# EAGLE library part MCV_05/12-G-2,5 (library con-phoenix-250)
Mini-Combicon 2.50mm 12polig MC(V) 0,5/12-G-2,5
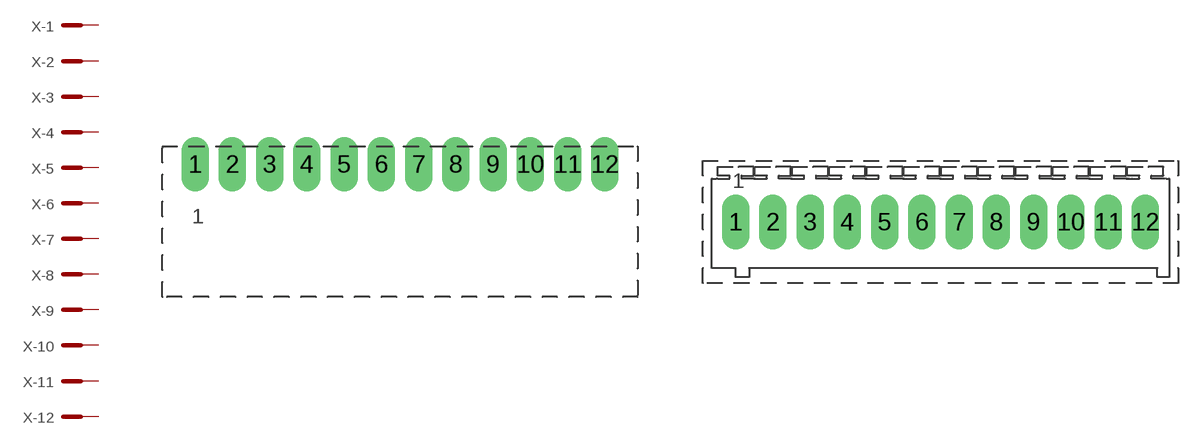
[diagram p1: symbol with the pads of MC12; footprints MC12, MCV12]

Designator prefix X; gates -1=MCST -2=MCST -3=MCST -4=MCST -5=MCST -6=MCST -7=MCST -8=MCST -9=MCST -10=MCST -11=MCST -12=MCST

## MCV_05/12-G-2,5  [MC12]
1  -1:SK  pas
2  -2:SK  pas
3  -3:SK  pas
4  -4:SK  pas
5  -5:SK  pas
6  -6:SK  pas
7  -7:SK  pas
8  -8:SK  pas
9  -9:SK  pas
10  -10:SK  pas
11  -11:SK  pas
12  -12:SK  pas

## MCV_05/12-G-2,5V  [MCV12]
Pads as for MC12

## Footprint MC12 (pad centres in mm)
Mini-Combicon 2.50mm 12-polig
drill 1.22 pad 1.676 long: 1 -12.5,0; 2 -10,0; 3 -7.5,0; 4 -5,0; 5 -2.5,0; 6 0,0; 7 2.5,0; 8 5,0; 9 7.5,0; 10 10,0; 11 12.5,0; 12 15,0

## Footprint MCV12 (pad centres in mm)
Mini-Combicon 2.50mm vertikal 12-polig
drill 1.22 pad 1.676 long: 1 -12.5,0; 2 -10,0; 3 -7.5,0; 4 -5,0; 5 -2.5,0; 6 0,0; 7 2.5,0; 8 5,0; 9 7.5,0; 10 10,0; 11 12.5,0; 12 15,0